# Altium schematic symbol library LM317AG-TN3-R.Schlib: 1 symbol
Pins are listed as number, name and electrical type; pins without a type are passive.

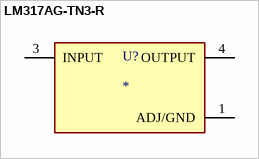
[diagram p0: symbol LM317AG-TN3-R]

## LM317AG-TN3-R
designator U?
Adjustable 40V 1.2V ~ 37V 5V @ 500mA TO-252-2(DPAK) Dropout Regulators(LDO) RoHS; ComponentLink1Description: LCSC - UTC(Unisonic Tech) LM317AG-TN3-R; ComponentLink1URL: https://lcsc.com/product-detail/Linear-Voltage-Regulators_LM317AL-TN3-R_C75510.html/?href=jlc-SMT; LCSC Part #: C75510; JLCPCB Part Type: Basic
footprint TO252-2
pins: 1 ADJ/GND, 3 INPUT (power), 4 OUTPUT (power)